# Altium footprint library FootPrintLib_4.PcbLib: 700 footprints (part 34 of 44)
Each footprint in its own frame and in the unit in brackets; x right, y up, seen from the top. Pads: shape width x height; smd on the part's side, far side on the other; paste and mask are expansions set on the pad; w line width, h text height; cw(c..) or ccw(c..) is an arc to the next point about the centre after c.
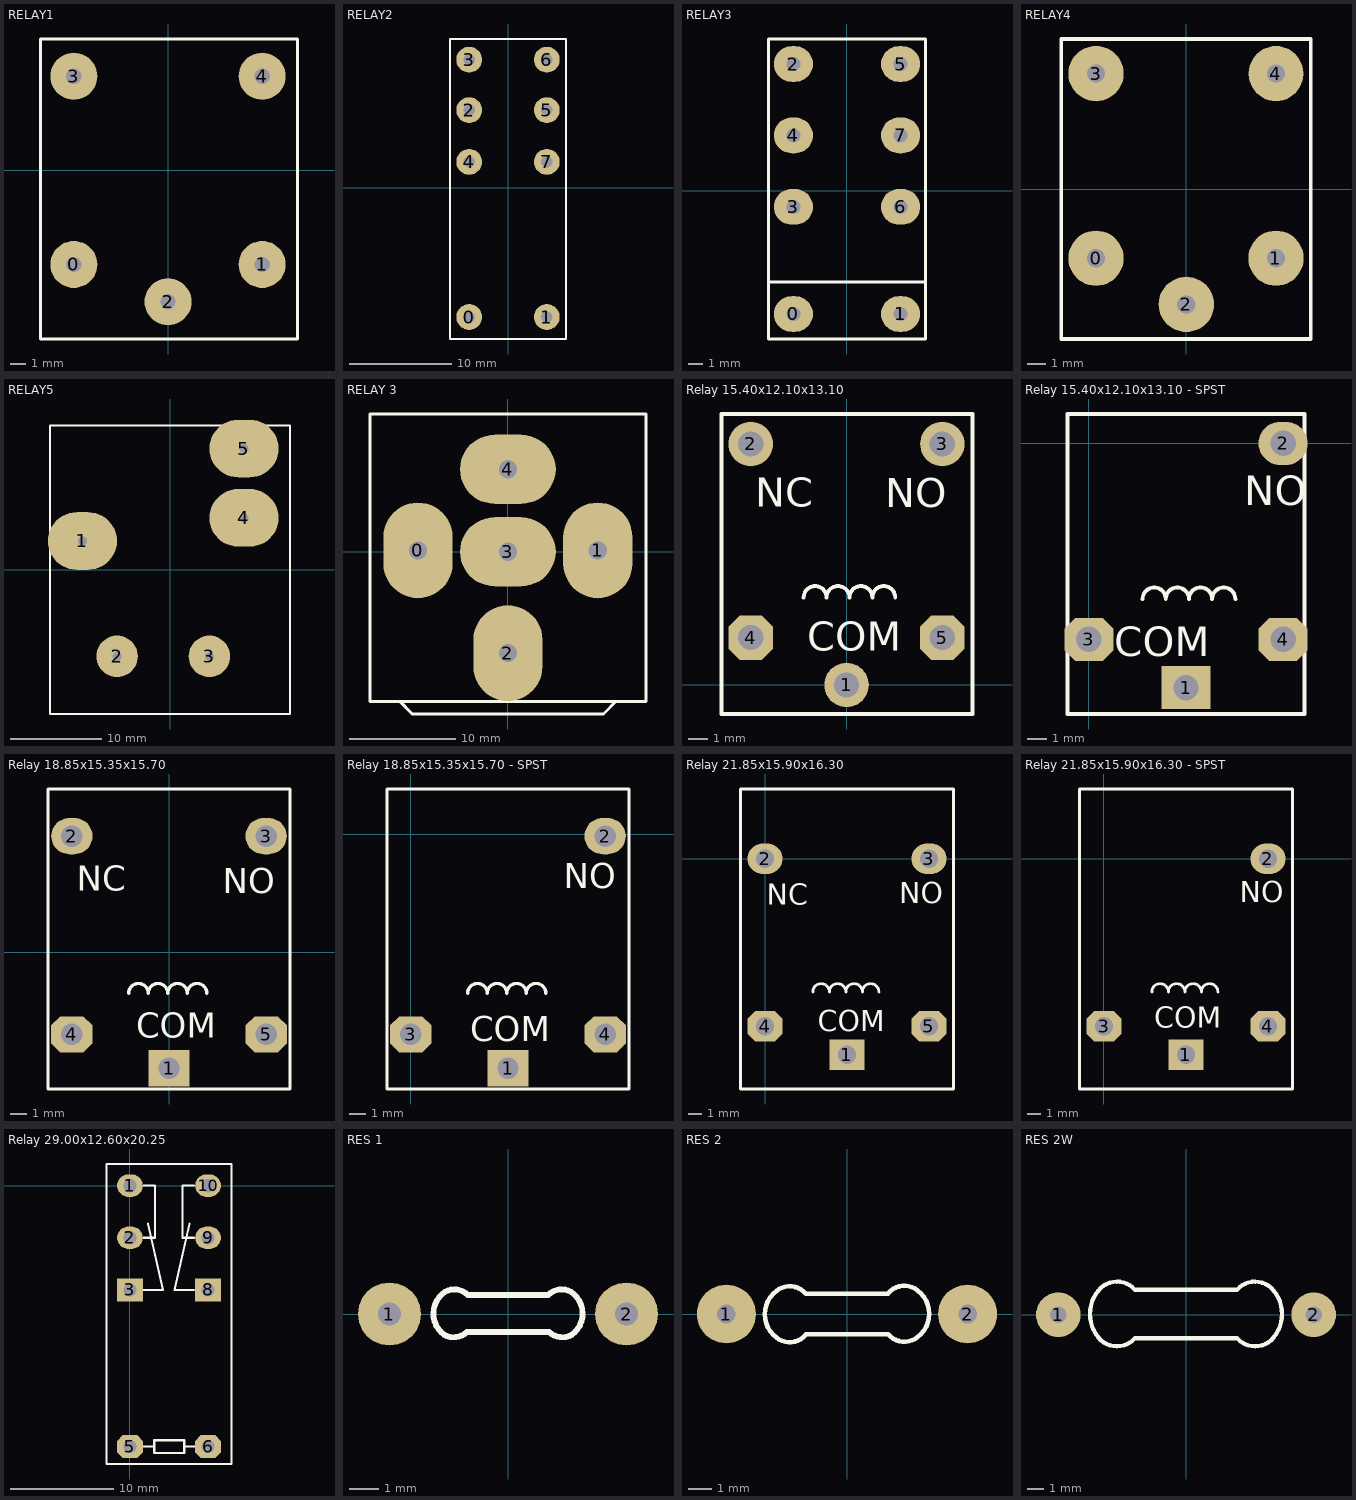
[diagram p33: the footprints below, top view; thin cyan lines are the x and y axes]

## RELAY1 [mil]
pads (5):
  round 120 hole 39.37: 0(-240,-240) 1(240,-240) 2(0,-335) 3(-240,240) 4(240,240)
Top Overlay:
  lines w8: -325,-430 -325,335 330,335 330,-430 -325,-430

## RELAY2 [mm]
pads (8):
  round 2.54 hole 1.1: 0(-3.81,-12.7) 1(3.81,-12.7) 2(-3.81,7.62) 3(-3.81,12.573) 4(-3.81,2.54) 5(3.81,7.62) 6(3.81,12.573) 7(3.81,2.54)
Top Overlay:
  lines w0.203: -5.715,-14.859 5.715,-14.859 5.715,14.605 -5.715,14.605 -5.715,-14.859

## RELAY3 [mil]
pads (8):
  oval 110x100 hole 39.37: 0(-149.05,-345) 1(150.95,-345) 2(-149.05,355) 3(-149.05,-45) 4(-149.05,155) 5(150.95,355) 6(150.95,-45) 7(150.95,155)
Top Overlay:
  lines w8: -219.05,-255 220.95,-255 ; -219.05,-415 -219.05,425 220.95,425 220.95,-415 -219.05,-415

## RELAY4 [mil]
pads (5):
  round 120 hole 39.37: 0(-195,-150) 1(195,-150) 2(0.7,-250) 3(-195,250)
  oval 118.11x120 hole 39.37: 4(195,250)
Top Overlay:
  lines w8: -270,-325 270,-325 270,325 -270,325 -270,-325

## RELAY5 [mil]
pads (5):
  oval 300x250 hole 39.37: 1(-380,125.33) 4(320,225.33) 5(320,525.33)
  round 180 hole 39.37: 2(-230,-374.67) 3(170,-374.67)
Top Overlay:
  lines w8: -520,-624.67 -520,625.33 520,625.33 520,-624.67 -520,-624.67

## RELAY 3 [mm]
pads (5):
  oval 6.5x9 hole 1.7: 0(-8.445,0.127) 1(8.445,0.127) 2(0,-9.525)
  oval 9x6.5 hole 1.7: 3(0,0) 4(0,7.747)
Top Overlay:
  lines w0.3: -10.16,-14.061 -8.981,-15.24 8.981,-15.24 10.16,-14.061 ; -12.939,-14.061 -12.939,12.939 12.969,12.939 12.969,-14.061 -12.939,-14.061

## Relay 15.40x12.10x13.10 [mm]
height 13.1
pads (5):
  round 2.3 hole 1.3: 1(0,0) 2(-4.95,12.45) 3(4.95,12.45)
  oct 2.3x2.3 hole 1.3: 4(-4.95,2.45) 5(4.95,2.45)
Top Overlay:
  lines w0.2: -2.213,4.515 cw(c-1.622,4.515) -1.031,4.515 cw(c-0.44,4.515) 0.151,4.515 cw(c0.742,4.515) 1.333,4.515 cw(c1.924,4.515) 2.515,4.515 ; -6.45,-1.5 6.5,-1.5 6.5,14 -6.45,14 -6.45,-1.5
  text "COM" at -2.032,1.778 h1.5
  text "NO" at 2.007,9.169 h1.5
  text "NC" at -4.724,9.22 h1.5
3D body "relay.STEP": height 15.6, standoff -2, extent -6.05,-1.3 6.05,14

## Relay 15.40x12.10x13.10 - SPST [mm]
height 13.1
pads (4):
  rect 2.5x2.2 hole 1.3: 1(4.95,-12.45)
  oval 2.5x2.2 hole 1.3: 2(9.9,0)
  oct 2.5x2.2 hole 1.3: 3(0,-10) 4(9.9,-10)
Top Overlay:
  lines w0.2: 2.737,-7.935 cw(c3.328,-7.935) 3.919,-7.935 cw(c4.51,-7.935) 5.101,-7.935 cw(c5.692,-7.935) 6.283,-7.935 cw(c6.874,-7.935) 7.465,-7.935 ; -1.1,-13.8 11,-13.8 11,1.5 -1.1,1.5 -1.1,-13.8
  text "COM" at 1.295,-10.86 h1.5
  text "NO" at 7.925,-3.15 h1.5

## Relay 18.85x15.35x15.70 [mm]
height 15.7
pads (5):
  rect 2.5x2.2 hole 1.3: 1(0,-7.025)
  oval 2.5x2.2 hole 1.3: 2(-5.875,7.025) 3(5.875,7.025)
  oct 2.5x2.2 hole 1.3: 4(-5.875,-4.975) 5(5.875,-4.975)
Top Overlay:
  lines w0.2: -2.438,-2.48 cw(c-1.847,-2.48) -1.256,-2.48 cw(c-0.665,-2.48) -0.074,-2.48 cw(c0.517,-2.48) 1.108,-2.48 cw(c1.699,-2.48) 2.29,-2.48 ; -7.325,-8.275 -7.325,9.875 7.325,9.875 7.325,-8.275 -7.325,-8.275
  text "COM" at -1.981,-5.182 h1.5
  text "NO" at 3.251,3.556 h1.5
  text "NC" at -5.588,3.734 h1.5
3D body "relay2.STEP": height 15.7, standoff -1.8, extent -7.366,-8.715 7.634,9.985

## Relay 18.85x15.35x15.70 - SPST [mm]
height 15.7
pads (4):
  rect 2.5x2.2 hole 1.3: 1(5.885,-14.15)
  oval 2.5x2.2 hole 1.3: 2(11.76,-0.1)
  oct 2.5x2.2 hole 1.3: 3(0.01,-12.1) 4(11.76,-12.1)
Top Overlay:
  lines w0.2: 3.447,-9.605 cw(c4.038,-9.605) 4.629,-9.605 cw(c5.22,-9.605) 5.811,-9.605 cw(c6.402,-9.605) 6.993,-9.605 cw(c7.584,-9.605) 8.175,-9.605 ; -1.44,-15.4 13.21,-15.4 13.21,2.75 -1.44,2.75 -1.44,-15.4
  text "NO" at 9.246,-3.251 h1.5
  text "COM" at 3.607,-12.522 h1.5

## Relay 21.85x15.90x16.30 [mm]
height 16.3
pads (5):
  rect 2.5x2.2 hole 1.3: 1(5.875,-14.05)
  oval 2.5x2.2 hole 1.3: 2(0,0) 3(11.75,0)
  oct 2.5x2.2 hole 1.3: 4(0,-12) 5(11.75,-12)
Top Overlay:
  lines w0.2: 3.43,-9.54 cw(c4.021,-9.54) 4.612,-9.54 cw(c5.203,-9.54) 5.794,-9.54 cw(c6.385,-9.54) 6.976,-9.54 cw(c7.567,-9.54) 8.158,-9.54 ; -1.75,-16.5 -1.75,5 13.5,5 13.5,-16.5 -1.75,-16.5
  text "COM" at 3.785,-12.344 h1.5
  text "NO" at 9.627,-3.175 h1.5
  text "NC" at 0.127,-3.302 h1.5

## Relay 21.85x15.90x16.30 - SPST [mm]
height 16.3
pads (4):
  rect 2.5x2.2 hole 1.3: 1(5.885,-14.04)
  oval 2.5x2.2 hole 1.3: 2(11.76,0.01)
  oct 2.5x2.2 hole 1.3: 3(0.01,-11.99) 4(11.76,-11.99)
Top Overlay:
  lines w0.2: 3.44,-9.53 cw(c4.031,-9.53) 4.622,-9.53 cw(c5.213,-9.53) 5.804,-9.53 cw(c6.395,-9.53) 6.986,-9.53 cw(c7.577,-9.53) 8.168,-9.53 ; -1.74,-16.49 -1.74,5.01 13.51,5.01 13.51,-16.49 -1.74,-16.49
  text "COM" at 3.607,-12.09 h1.5
  text "NO" at 9.754,-3.099 h1.5

## Relay 29.00x12.60x20.25 [mm]
height 20.25
pads (8):
  oval 2.5x2.2 hole 1.3: 1(0,0) 2(0,-5.08) 9(7.6,-5.08) 10(7.6,0)
  rect 2.5x2.2 hole 1.3: 3(0,-10.16) 8(7.6,-10.16)
  oct 2.5x2.2 hole 1.3: 5(0,-25.4) 6(7.6,-25.4)
Top Overlay:
  lines w0.2: 1.32,-25.4 2.364,-25.4 ; 1.32,-10.16 3.195,-10.16 1.752,-3.708 ; 1.32,-5.08 2.42,-5.08 2.42,0 1.32,0 ; 5.282,-25.4 6.324,-25.4 ; 5.786,-3.708 4.343,-10.16 6.218,-10.16 ; 6.22,-5.08 5.12,-5.08 5.12,0 6.22,0 ; -2.3,-27.1 9.9,-27.1 9.9,2.1 -2.3,2.1 -2.3,-27.1 ; 2.364,-26.01 2.364,-24.79 5.282,-24.79 5.282,-26.01 2.364,-26.01

## RES 1 [mil]
pads (2):
  round 85 hole 31.5: 1(-160,0) 2(160,0)
Top Overlay:
  lines w8: -85.94,-28.19 ccw(c-73.44,-5.69) -55.66,-24.3 55.66,-24.3 ccw(c73.44,-5.69) 85.94,-28.19 ccw(c65.39,0.58) 85,30 ccw(c72.5,7.5) 54.3,25.7 -54.3,25.7 ccw(c-72.5,7.5) -85,30 ccw(c-65.39,0.58) -85.94,-28.19

## RES 2 [mm]
pads (2):
  round 2.54 hole 0.8: 1(-5.207,0) 2(5.207,0)
Top Overlay:
  lines w0.203: -1.778,-0.889 cw(c-2.476,-0.318) -3.048,-1.016 cw(c-2.294,-0.01) -3.048,0.996 cw(c-2.476,0.297) -1.778,0.869 ; -1.778,-0.879 1.778,-0.879 ; -1.778,0.879 1.778,0.879 ; 1.778,-0.869 ccw(c2.476,-0.297) 3.048,-0.996 ccw(c2.294,0.01) 3.048,1.016 ccw(c2.476,0.318) 1.778,0.889

## RES 2W [mil]
pads (2):
  round 105 hole 39.37: 1(-300,0) 2(300,0)
Top Overlay:
  lines w10: -200,-60 ccw(c-162.5,-17.5) -120,-55 120,-55 ccw(c162.5,-17.5) 200,-60 ccw(c138.1,1.8) 199.9,63.7 ccw(c162.4,21.2) 119.9,58.7 -119.9,58.7 ccw(c-162.4,21.2) -199.9,63.7 ccw(c-138.1,1.8) -200,-60